# EAGLE library part ULN2803A (library deiring-components)
Darlington Transitor Array Driver
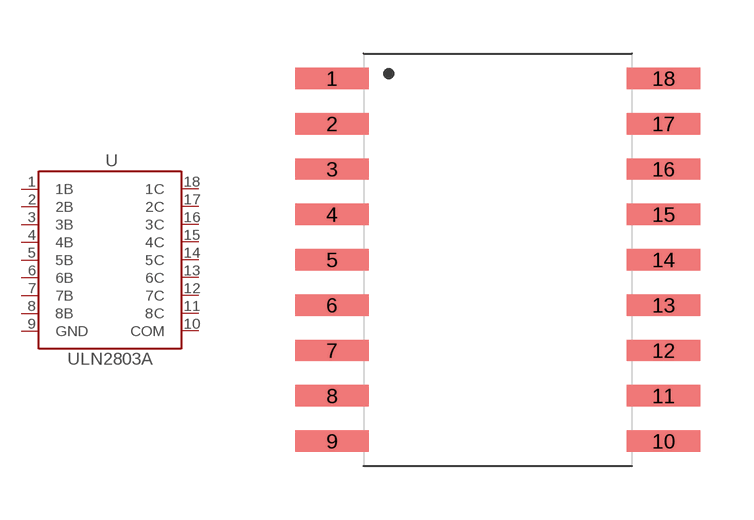
[diagram p38: symbol with the pads of SOIC-18; footprint SOIC-18]

Designator prefix U

## ULN2803A-SOIC-18 (LCSC: C2758014; MF: Texas Instruments; MPN: ULN2803; VALUE: ULN2803)  [SOIC-18]
1  1B
2  2B
3  3B
4  4B
5  5B
6  6B
7  7B
8  8B
9  GND  pwr
10  COM
11  8C
12  7C
13  6C
14  5C
15  4C
16  3C
17  2C
18  1C

## Footprint SOIC-18 (pad centres in mm)
smd 2.06 x 0.6: 1 -4.64,5.08; 2 -4.64,3.81; 3 -4.64,2.54; 4 -4.64,1.27; 5 -4.64,0; 6 -4.64,-1.27; 7 -4.64,-2.54; 8 -4.64,-3.81; 9 -4.64,-5.08; 10 4.64,-5.08; 11 4.64,-3.81; 12 4.64,-2.54; 13 4.64,-1.27; 14 4.64,0; 15 4.64,1.27; 16 4.64,2.54; 17 4.64,3.81; 18 4.64,5.08